# EAGLE library part C8051F34A (library X893)
http://www.silabs.com/Support%20Documents/TechnicalDocs/C8051F34x.pdf
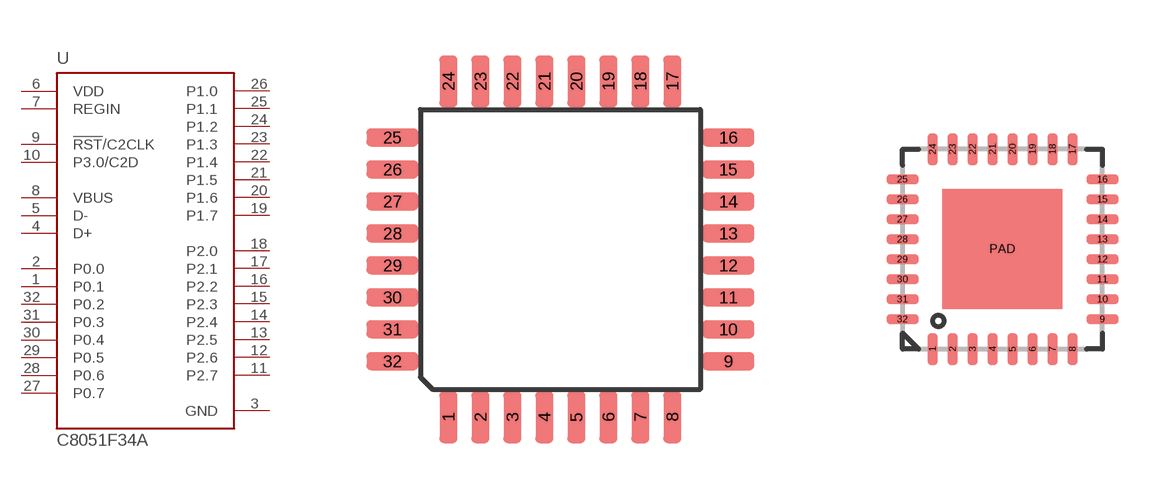
[diagram p45: symbol with the pads of LQFP32; footprints LQFP32, QFN32-5X5]

Designator prefix U

## C8051F34A-GQ  [LQFP32]
1  P0.1
2  P0.0
3  GND  pwr
4  D+
5  D-
6  VDD  pwr
7  REGIN  pas
8  VBUS  pas
9  !RST!/C2CLK
10  P3.0/C2D
11  P2.7
12  P2.6
13  P2.5
14  P2.4
15  P2.3
16  P2.2
17  P2.1
18  P2.0
19  P1.7
20  P1.6
21  P1.5
22  P1.4
23  P1.3
24  P1.2
25  P1.1
26  P1.0
27  P0.7
28  P0.6
29  P0.5
30  P0.4
31  P0.3
32  P0.2

## C8051F34A-GM  [QFN32-5X5]
Pads as for LQFP32

## Footprint LQFP32 (pad centres in mm)
LQFP-32 package 7x7 mm case, 0.8 mm lead pitch
smd 0.45 x 1.3: 1 -2.8,-4.2; 2 -2,-4.2; 3 -1.2,-4.2; 4 -0.4,-4.2; 5 0.4,-4.2; 6 1.2,-4.2; 7 2,-4.2; 8 2.8,-4.2; 17 2.8,4.2; 18 2,4.2; 19 1.2,4.2; 20 0.4,4.2; 21 -0.4,4.2; 22 -1.2,4.2; 23 -2,4.2; 24 -2.8,4.2
smd 1.3 x 0.45: 9 4.2,-2.8; 10 4.2,-2; 11 4.2,-1.2; 12 4.2,-0.4; 13 4.2,0.4; 14 4.2,1.2; 15 4.2,2; 16 4.2,2.8; 25 -4.2,2.8; 26 -4.2,2; 27 -4.2,1.2; 28 -4.2,0.4; 29 -4.2,-0.4; 30 -4.2,-1.2; 31 -4.2,-2; 32 -4.2,-2.8

## Footprint QFN32-5X5 (pad centres in mm)
smd 0.25 x 0.8: 1 -1.75,-2.5; 2 -1.25,-2.5; 3 -0.75,-2.5; 4 -0.25,-2.5; 5 0.25,-2.5; 6 0.75,-2.5; 7 1.25,-2.5; 8 1.75,-2.5; 17 1.75,2.5; 18 1.25,2.5; 19 0.75,2.5; 20 0.25,2.5; 21 -0.25,2.5; 22 -0.75,2.5; 23 -1.25,2.5; 24 -1.75,2.5
smd 0.8 x 0.25: 9 2.5,-1.75; 10 2.5,-1.25; 11 2.5,-0.75; 12 2.5,-0.25; 13 2.5,0.25; 14 2.5,0.75; 15 2.5,1.25; 16 2.5,1.75; 25 -2.5,1.75; 26 -2.5,1.25; 27 -2.5,0.75; 28 -2.5,0.25; 29 -2.5,-0.25; 30 -2.5,-0.75; 31 -2.5,-1.25; 32 -2.5,-1.75
smd 0.5 x 0.5: PAD 0,0